# Altium schematic symbol library Crystals.SchLib: 2 symbols
Pins are listed as number, name and electrical type; pins without a type are passive.

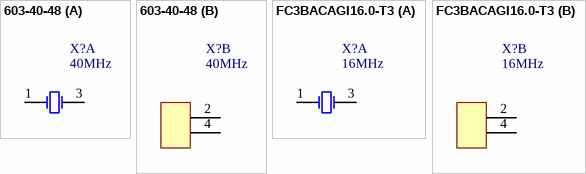
[diagram p0: symbols 603-40-48 to FC3BACAGI16.0-T3]

## 603-40-48
designator X?, comment 40MHz
CRYSTAL 40MHZ 12PF SMD; Manufacturer: Fox Electronics; Description: CRYSTAL 40.0000MHZ 12PF SMD; ComponentLink1URL: https://www.foxonline.com/pdfs/603-40-48.pdf?src-supplier=Digi-Key; ComponentLink1Description: Datasheet; Supplier 1: Digi-Key; Manufacturer Part Number: 603-40-48; Stock 1: 3916; Pricing 1: 1 = 0.840000, 10 = 0.744000, 50 = 0.695400, 100 = 0.614500, 500 = 0.582120, 1000 = 0.485100 (USD); RoHS 1: No; Supplier Part Number 1: 631-1480-1-ND
footprint DFN220P320X80-4M (DFN, 4-Leads, Body 2.50x3.20mm, Pitch 2.20mm, IPC Low Density)
part A pins: 1 X1, 3 X2
part B pins: 2 GND (power), 4 GND (power)

## FC3BACAGI16.0-T3
designator X?, comment 16MHz
CRYSTAL16MHZ 12PF SMD; Manufacturer: Fox Electronics; Manufacturer Part Number: FC3BACAGI16.0-T3; Description: EQ CORES; ComponentLink1Description: Datasheet; ComponentLink1URL: http://www.foxonline.com/pdfs/C3BA.pdf; Supplier 1: Digi-Key; Stock 1: 2804; Pricing 1: 1 = 0.510000, 10 = 0.422000, 50 = 0.379400, 100 = 0.337300, 500 = 0.320400, 1000 = 0.269810 (USD); RoHS 1: No; Supplier Part Number 1: 631-1490-1-ND
footprint DFN220P320X80-4M (DFN, 4-Leads, Body 2.50x3.20mm, Pitch 2.20mm, IPC Low Density)
part A pins: 1 X1, 3 X2
part B pins: 2 GND (power), 4 GND (power)